# Altium schematic symbol library EEUFS1K271LB.SchLib: 1 symbol
Pins are listed as number, name and electrical type; pins without a type are passive.

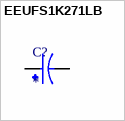
[diagram p0: symbol EEUFS1K271LB]

## EEUFS1K271LB
designator C?
FS-A; MP: EEUFS1K271LB; MF: {'manufacturer': u'Panasonic'}; Value: *; Price: None; Package: None; Availability: Unavailable
footprint CAPPRD500W60D1000H2500
pins: N, P